# Altium footprint library MBurstPCB.PcbLib: 25 footprints (part 1 of 2)
Each footprint in its own frame and in the unit in brackets; x right, y up, seen from the top. Pads: shape width x height; smd on the part's side, far side on the other; paste and mask are expansions set on the pad; w line width, h text height; cw(c..) or ccw(c..) is an arc to the next point about the centre after c.
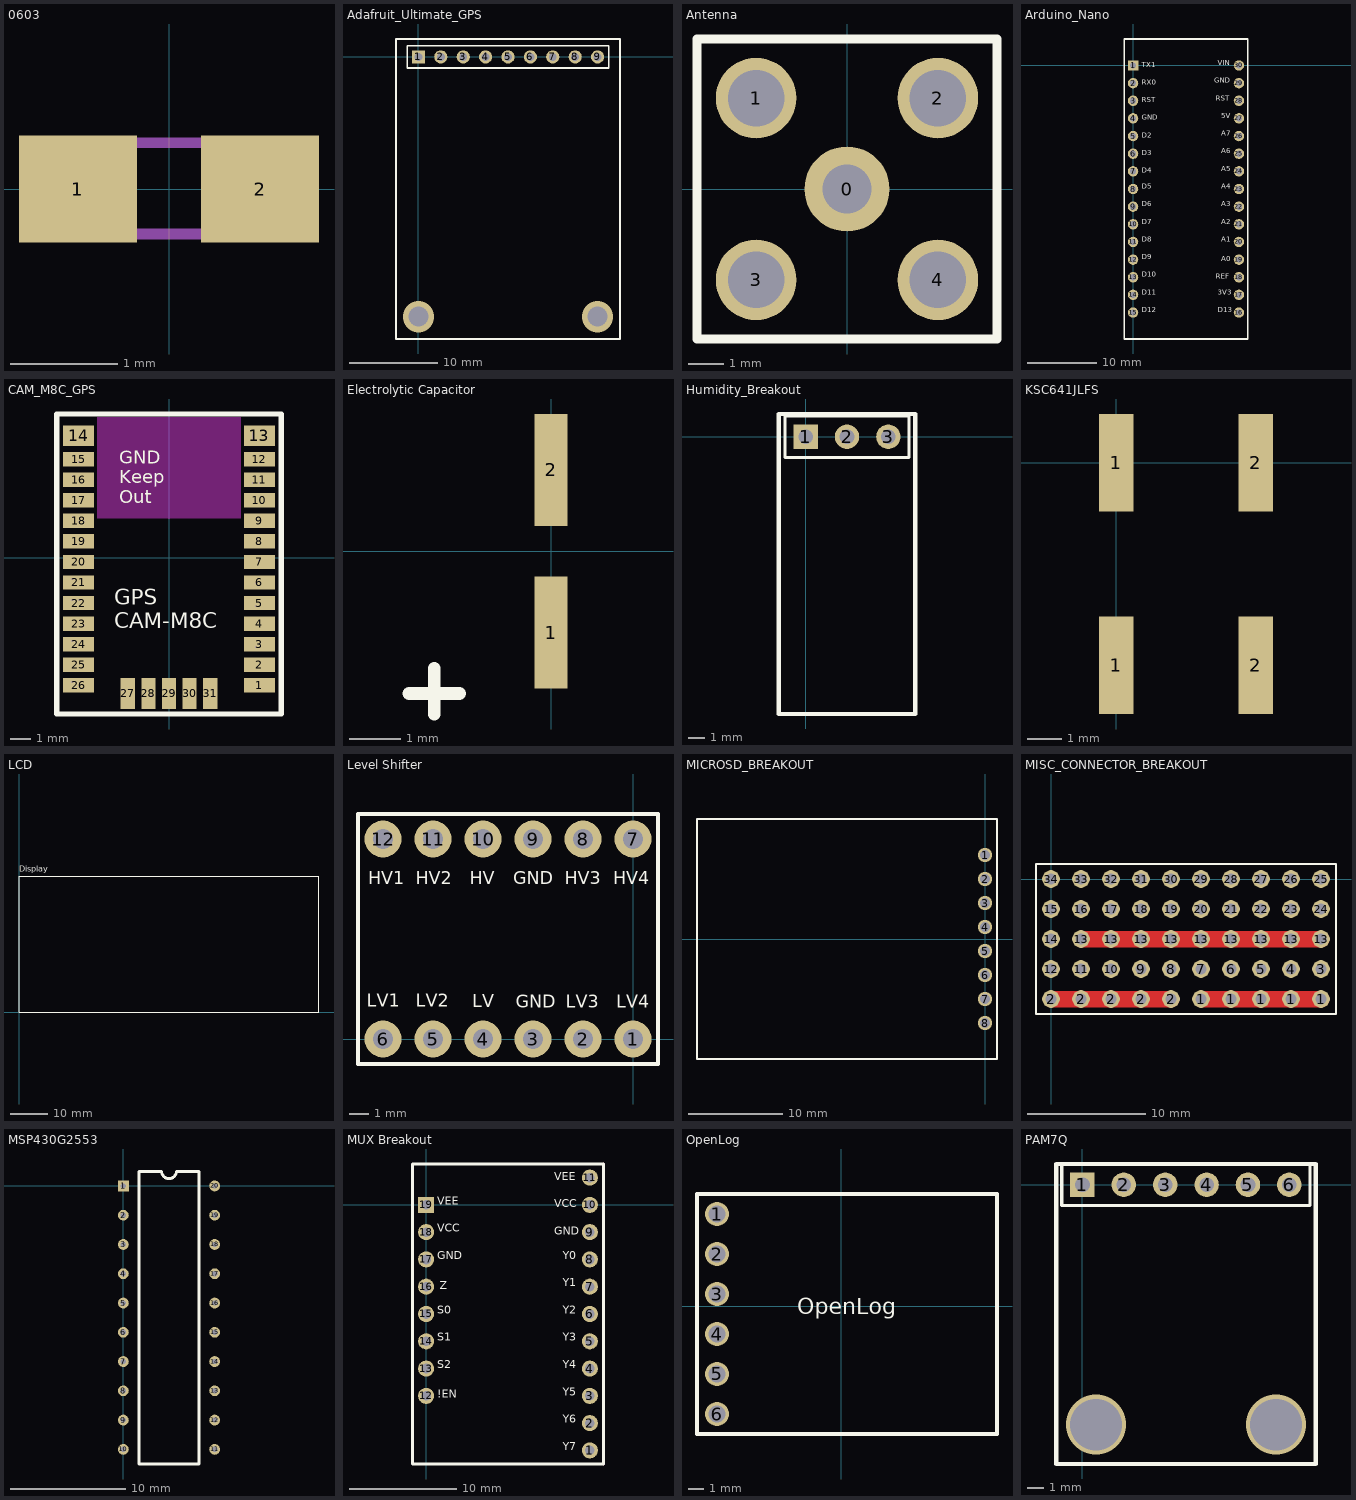
[diagram p0: the footprints below, top view; thin cyan lines are the x and y axes]

## 0603 [mm] "0603"
pads (2):
  rect 1.1x1 smd: 1(-0.85,0) 2(0.85,0)
Mechanical 8:
  region: 0.33,-0.47 0.33,0.48 0.83,0.48 0.83,-0.47
  region: -0.838,-0.47 -0.838,0.48 -0.338,0.48 -0.338,-0.47
  lines w0.102: -0.356,-0.419 0.356,-0.419 ; -0.356,0.432 0.356,0.432

## Adafruit_Ultimate_GPS [mm] "Adafruit GPS Breakout Board"
pads (9):
  rect 1.5x1.5 hole 0.9: 1(0,0)
  round 1.5 hole 0.9: 2(2.54,0) 3(5.08,0) 4(7.62,0) 5(10.16,0) 6(12.7,0) 7(15.24,0) 8(17.78,0) 9(20.32,0)
via 0,-29.464 diameter 3.556 hole 2.286
via 20.32,-29.464 diameter 3.556 hole 2.286
Top Overlay:
  lines w0.2: -1.27,-1.27 -1.27,1.27 21.59,1.27 21.59,-1.27 -1.27,-1.27
  lines w0.254: -2.54,-32.004 -2.54,2.032 22.86,2.032 22.86,-32.004 -2.54,-32.004
3D body: height 2.11, standoff 0.51, extent -2.54,-32.004 22.86,2.032

## Antenna [mm]
pads (5):
  round 2.413 hole 1.4: 0(0,0)
  round 2.286 hole 1.6: 1(-2.575,2.575) 2(2.575,2.575) 3(-2.575,-2.575) 4(2.575,-2.575)
Top Overlay:
  lines w0.254: -4.25,-4.25 4.25,-4.25 4.25,4.25 -4.25,4.25 -4.25,-4.25

## Arduino_Nano [mm]
pads (30):
  rect 1.5x1.5 hole 0.9: 1(0,0)
  round 1.5 hole 0.9: 2(0,-2.54) 3(0,-5.08) 4(0,-7.62) 5(0,-10.16) 6(0,-12.7) 7(0,-15.24) 8(0,-17.78) 9(0,-20.32) 10(0,-22.86) 11(0,-25.4) 12(0,-27.94) 13(0,-30.48) 14(0,-33.02) 15(0,-35.56) 16(15.24,-35.56) 17(15.24,-33.02) 18(15.24,-30.48) 19(15.24,-27.94) 20(15.24,-25.4) 21(15.24,-22.86) 22(15.24,-20.32) 23(15.24,-17.78) 24(15.24,-15.24) 25(15.24,-12.7) 26(15.24,-10.16) 27(15.24,-7.62) 28(15.24,-5.08) 29(15.24,-2.54) 30(15.24,0)
Top Overlay:
  lines w0.2: -1.27,-36.83 -1.27,1.27 ; 16.51,-36.83 16.51,-0.635 16.51,1.27
  lines w0.254: 16.51,-28.575 16.51,-39.37 -1.27,-39.37 -1.27,3.81 16.51,3.81 16.51,1.111
  text "TX1" at 1.27,-0.508 h1.26
  text "RX0" at 1.27,-3.048 h1.26
  text "RST" at 1.27,-5.588 h1.26
  text "GND" at 1.27,-8.128 h1.26
  text "D2" at 1.27,-10.668 h1.26
  text "D3" at 1.27,-13.208 h1.26
  text "D4" at 1.27,-15.748 h1.26
  text "D5" at 1.27,-18.034 h1.26
  text "D6" at 1.27,-20.574 h1.26
  text "D7" at 1.27,-23.114 h1.26
  text "D8" at 1.27,-25.654 h1.26
  text "D9" at 1.27,-28.194 h1.26
  text "D10" at 1.27,-30.734 h1.26
  text "D11" at 1.27,-33.274 h1.26
  text "D12" at 1.27,-35.814 h1.26
  text "D13" at 12.192,-35.814 h1.26
  text "3V3" at 12.192,-33.274 h1.26
  text "REF" at 11.938,-30.988 h1.26
  text "A0" at 12.7,-28.448 h1.26
  text "A1" at 12.7,-25.654 h1.26
  text "A2" at 12.7,-23.114 h1.26
  text "A3" at 12.7,-20.574 h1.26
  text "A4" at 12.7,-18.034 h1.26
  text "A5" at 12.7,-15.494 h1.26
  text "A6" at 12.7,-12.954 h1.26
  text "A7" at 12.7,-10.414 h1.26
  text "5V" at 12.7,-7.874 h1.26
  text "RST" at 11.938,-5.334 h1.26
  text "GND" at 11.684,-2.794 h1.26
  text "VIN" at 12.192,-0.254 h1.26
3D body: height 2.11, standoff 0.51, extent -1.27,-39.37 16.51,3.81

## CAM_M8C_GPS [mm]
pads (31):
  rect 1.5x0.7 smd: 1(4.4,-6.2) 2(4.4,-5.2) 3(4.4,-4.2) 4(4.4,-3.2) 5(4.4,-2.2) 6(4.4,-1.2) 7(4.4,-0.2) 8(4.4,0.8) 9(4.4,1.8) 10(4.4,2.8) 11(4.4,3.8) 12(4.4,4.8) 15(-4.4,4.8) 16(-4.4,3.8) 17(-4.4,2.8) 18(-4.4,1.8) 19(-4.4,0.8) 20(-4.4,-0.2) 21(-4.4,-1.2) 22(-4.4,-2.2) 23(-4.4,-3.2) 24(-4.4,-4.2) 25(-4.4,-5.2) 26(-4.4,-6.2)
  rect 1.5x1 smd: 13(4.4,5.95) 14(-4.4,5.95)
  rect 0.7x1.5 smd: 27(-2,-6.6) 28(-1,-6.6) 29(0,-6.6) 30(1,-6.6) 31(2,-6.6)
Top Overlay:
  lines w0.254: -5.461,-7.6 -5.461,7 5.461,7 5.461,-7.6 -5.461,-7.6
  text "GPS / CAM-M8C" at -2.667,-3.429 h0.76
  text "." at 5.842,-6.223 h0.76
  text "GND  / Keep / Out" at -2.413,2.667 h0.64
Keep-Out Layer:
  rectangle: -3.5,1.905 3.5,6.858

## Electrolytic Capacitor [mm]
pads (2):
  rect 0.65x2.2 smd: 1(0,-1.6) 2(0,1.6)
Top Overlay:
  lines w0.254: -2.8,-2.8 -1.8,-2.8 ; -2.3,-3.2 -2.3,-2.3

## Humidity_Breakout [mm]
pads (3):
  rect 1.5x1.5 hole 0.9: 1(0,0)
  round 1.5 hole 0.9: 2(2.54,0) 3(5.08,0)
Top Overlay:
  lines w0.2: -1.27,-1.27 6.35,-1.27 6.35,1.27 -1.27,1.27 -1.27,-1.27
  lines w0.254: -1.651,-17.018 6.731,-17.018 6.731,1.397 -1.651,1.397 -1.651,-17.018
3D body: height 2.11, standoff 0.51, extent -1.651,-17.018 6.731,1.397

## KSC641JLFS [mm] "Tactile Switch"
height 3
pads (4):
  rect 1x2.8 smd: 1(0,-5.8) 1(0,0) 2(4,-5.8) 2(4,0)

## LCD [mm] "Series/UART 3v3 LCD Display"
height 0.025
Top Overlay:
  lines w0.254: 0,0 0,36.195 80.01,36.195 80.01,0 0,0
  text "Display" at 0,37.5 h1.52

## Level Shifter [mil] "1X06"
pads (12):
  round 74 hole 40: 1(0,0) 2(-100,0) 3(-200,0) 4(-300,0) 5(-400,0) 6(-500,0) 7(0,400) 8(-100,400) 9(-200,400) 10(-300,400) 11(-400,400) 12(-500,400)
Top Overlay:
  lines w8: -550,-25 -550,25 ; -550,375 -550,425 ; -525,-50 -475,-50 ; -525,450 -475,450 ; -425,-50 -375,-50 ; -425,450 -375,450 ; -325,-50 -275,-50 ; -325,450 -275,450 ; -225,-50 -175,-50 ; -225,450 -175,450 ; -125,-50 -75,-50 ; -125,450 -75,450 ; -25,-50 25,-50 ; -25,450 25,450 ; 50,-25 50,25 ; 50,375 50,425 ; -550,-50 50,-50 50,450 -550,450 -550,-50
  text "LV1" at -533,65 h25.5
  text "LV4" at -34,63 h25.5
  text "LV2" at -435,65 h25.5
  text "LV3" at -135,63 h25.5
  text "LV" at -322,64 h25.5
  text "HV" at -327,310 h25.5
  text "GND" at -235,63 h25.5
  text "GND" at -240,310 h25.5
  text "HV3" at -137,310 h25.5
  text "HV2" at -435,310 h25.5
  text "HV4" at -40,310 h25.5
  text "HV1" at -530,310 h25.5

## MICROSD_BREAKOUT [mil] "Adafruit MicroSD card breakout board+"
pads (8):
  round 60 hole 43.31: 1(0,350) 2(0,250) 3(0,150) 4(0,50) 5(0,-50) 6(0,-150) 7(0,-250) 8(0,-350)
Top Overlay:
  lines w10: -1200,-500 50,-500 50,500 -1200,500 -1200,-500

## MISC_CONNECTOR_BREAKOUT [mm]
pads (50):
  round 1.5 hole 0.9: 1(12.7,-10.16) 1(15.24,-10.16) 1(17.78,-10.16) 1(20.32,-10.16) 1(22.86,-10.16) 2(0,-10.16) 2(2.54,-10.16) 2(5.08,-10.16) 2(7.62,-10.16) 2(10.16,-10.16) 3(22.86,-7.62) 4(20.32,-7.62) 5(17.78,-7.62) 6(15.24,-7.62) 7(12.7,-7.62) 8(10.16,-7.62) 9(7.62,-7.62) 10(5.08,-7.62) 11(2.54,-7.62) 12(0,-7.62) 13(2.54,-5.08) 13(5.08,-5.08) 13(7.62,-5.08) 13(10.16,-5.08) 13(12.7,-5.08) 13(15.24,-5.08) 13(17.78,-5.08) 13(20.32,-5.08) 13(22.86,-5.08) 14(0,-5.08) 15(0,-2.54) 16(2.54,-2.54) 17(5.08,-2.54) 18(7.62,-2.54) 19(10.16,-2.54) 20(12.7,-2.54) 21(15.24,-2.54) 22(17.78,-2.54) 23(20.32,-2.54) 24(22.86,-2.54) 25(22.86,0) 26(20.32,0) 27(17.78,0) 28(15.24,0) 29(12.7,0) 30(10.16,0) 31(7.62,0) 32(5.08,0) 33(2.54,0) 34(0,0)
Top Layer:
  lines w1.397: 0,-10.16 10.16,-10.16 ; 2.54,-5.08 22.86,-5.08 ; 12.7,-10.16 22.86,-10.16
Top Overlay:
  lines w0.2: -1.27,-11.43 -1.27,-8.89 -1.27,-6.35 -1.27,-3.81 -1.27,-1.27 -1.27,1.27 0.635,1.27 24.13,1.27 24.13,-1.27 24.13,-3.81 24.13,-6.35 24.13,-8.89 24.13,-11.43 -1.27,-11.43

## MSP430G2553 [mil]
pads (20):
  rect 37x37 hole 18: 1(0,0)
  round 37 hole 18: 2(0,-100) 3(0,-200) 4(0,-300) 5(0,-400) 6(0,-500) 7(0,-600) 8(0,-700) 9(0,-800) 10(0,-900) 11(312,-900) 12(312,-800) 13(312,-700) 14(312,-600) 15(312,-500) 16(312,-400) 17(312,-300) 18(312,-200) 19(312,-100) 20(312,0)
Top Overlay:
  lines w10: 53.5,-950 53.5,50 131,50 ccw(c156,50) 181,50 258.5,50 258.5,-950 53.5,-950

## MUX Breakout [mm]
pads (19):
  round 1.5 hole 0.9: 1(15.24,-22.86) 2(15.24,-20.32) 3(15.24,-17.78) 4(15.24,-15.24) 5(15.24,-12.7) 6(15.24,-10.16) 7(15.24,-7.62) 8(15.24,-5.08) 9(15.24,-2.54) 10(15.24,0) 11(15.24,2.54) 12(0,-17.78) 13(0,-15.24) 14(0,-12.7) 15(0,-10.16) 16(0,-7.62) 17(0,-5.08) 18(0,-2.54)
  rect 1.5x1.5 hole 0.9: 19(0,0)
Top Overlay:
  lines w0.254: -1.27,1.27 -1.27,-24.13 ; 16.51,1.111 16.51,3.81 12.065,3.81 9.842,3.81 5.397,3.81 3.175,3.81 2.064,3.81 -0.159,3.81 -1.27,3.81 -1.27,-24.13 ; 16.51,1.27 16.51,-24.13 12.065,-24.13 3.175,-24.13 -1.27,-24.13
  text "!EN" at 1.012,-18.257 h1.26
  text "VEE" at 1.016,-0.254 h1.26
  text "VCC" at 1.016,-2.794 h1.26
  text "GND" at 1.016,-5.334 h1.26
  text "Z" at 1.27,-8.128 h1.26
  text "S0" at 1.016,-10.414 h1.26
  text "S1" at 1.016,-12.954 h1.26
  text "S2" at 1.016,-15.494 h1.26
  text "Y7" at 12.7,-23.114 h1.26
  text "Y6" at 12.7,-20.574 h1.26
  text "Y5" at 12.7,-18.034 h1.26
  text "Y4" at 12.7,-15.494 h1.26
  text "Y3" at 12.7,-12.954 h1.26
  text "Y2" at 12.7,-10.414 h1.26
  text "Y1" at 12.7,-7.874 h1.26
  text "Y0" at 12.7,-5.334 h1.26
  text "GND" at 11.938,-3.048 h1.26
  text "VCC" at 11.938,-0.508 h1.26
  text "VEE" at 11.938,2.032 h1.26
Mechanical 1:
  lines w0.254: 16.51,-24.13 16.51,-6.985 16.51,-4.286 16.51,3.81
3D body: height 2.11, standoff 0.51, extent -1.27,-24.13 16.51,3.81

## OpenLog [mil]
pads (6):
  round 60 hole 43.31: 1(-310,230) 2(-310,130) 3(-310,30) 4(-310,-70) 5(-310,-170) 6(-310,-270)
Top Overlay:
  lines w10: -360,-320 -360,280 390,280 390,-320 -360,-320
  text "OpenLog" at -110,-20 h40

## PAM7Q [mm]
pads (6):
  rect 1.5x1.5 hole 0.9: 1(0,0)
  round 1.5 hole 0.9: 2(2.54,0) 3(5.08,0) 4(7.62,0) 5(10.16,0) 6(12.7,0)
via 11.874,-14.732 diameter 3.683 hole 3.175
via 0.826,-14.732 diameter 3.683 hole 3.175
Top Overlay:
  lines w0.2: -1.27,-1.27 13.97,-1.27 13.97,1.27 -1.27,1.27 -1.27,-1.27
  lines w0.254: -1.607,-17.145 14.319,-17.145 14.319,1.27 -1.607,1.27 -1.607,-17.145
3D body: height 2.11, standoff 0.51, extent -1.607,-17.094 14.319,1.321